# Altium schematic symbol library Schlib2.SchLib: 15 symbols
Pins are listed as number, name and electrical type; pins without a type are passive.

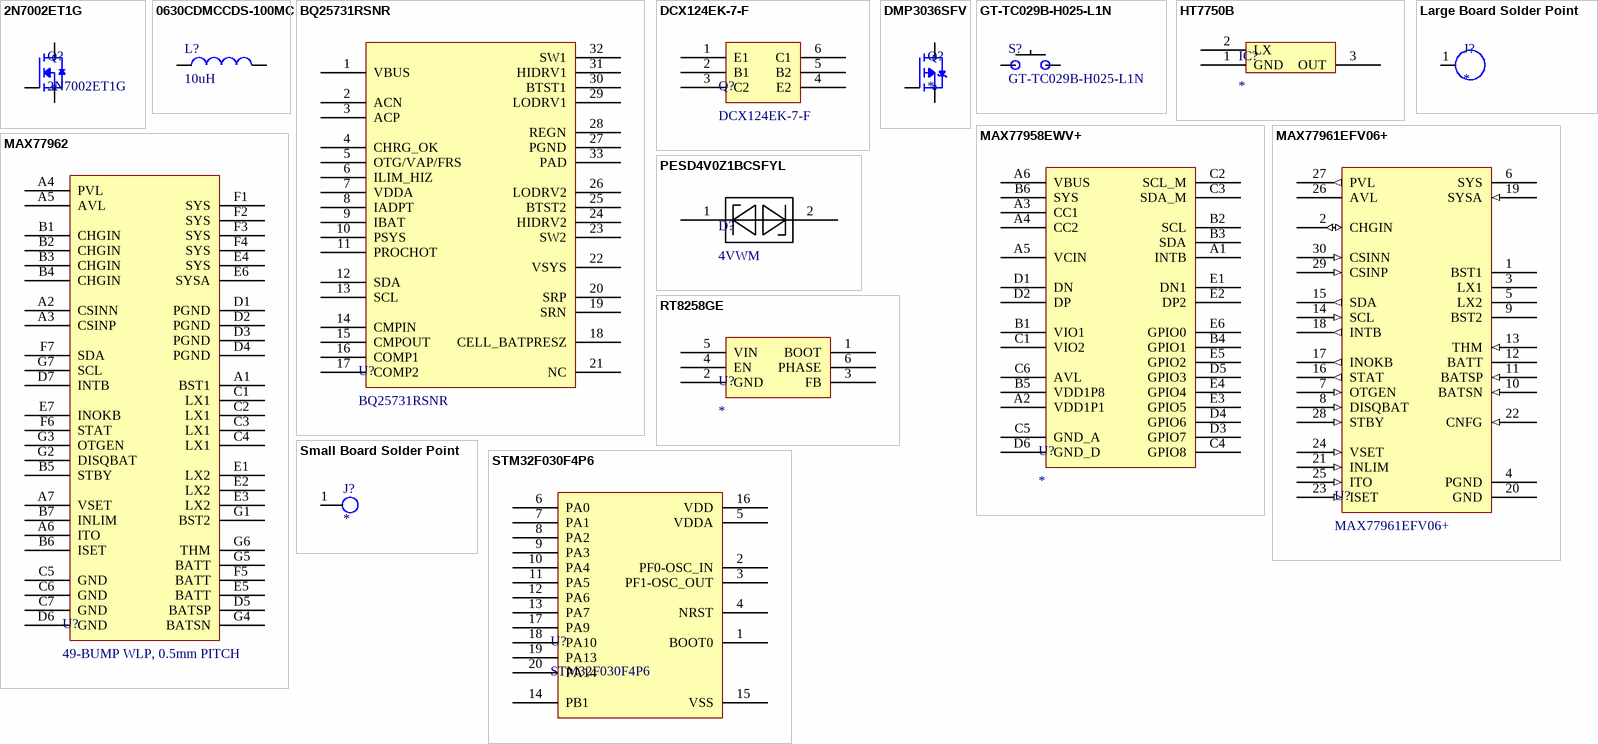
[diagram p0: symbols 2N7002ET1G to STM32F030F4P6]

## 2N7002ET1G
designator Q?
N-Channel 60 V 260mA (Ta) 300mW (Tj) Surface Mount SOT-23-3 (TO-236)
pins: 1 G, 1 S, 2 S, 2 S, 3 D

## 0630CDMCCDS-100MC
designator L?, comment 10uH
4A 10uH ±20% 67mΩ SMD,7x6.6x2.8mm Power Inductors ROHS
footprint 0630CDMCCDS-100MC (SMD,7x6.6x2.8mm)
pins: 1, 2

## BQ25731RSNR
designator U?
I2C 1- to 5-Cell Buck-Boost Battery Charge Controller with USB-C PD 3.0 OTG Output
footprint QFN40P400X400X80_HS-33N (QFN, 32-Leads, Body 4.00x4.00mm, Pitch 0.40mm, Thermal Pad 3.00x3.00mm, IPC Medium Density)
pins: 1 VBUS, 2 ACN, 3 ACP, 4 CHRG_OK, 5 OTG/VAP/FRS, 6 ILIM_HIZ, 7 VDDA, 8 IADPT, 9 IBAT, 10 PSYS, 11 PROCHOT, 12 SDA, 13 SCL, 14 CMPIN, 15 CMPOUT, 16 COMP1, 17 COMP2, 18 CELL_BATPRESZ, 19 SRN, 20 SRP, 21 NC, 22 VSYS, 23 SW2, 24 HIDRV2, 25 BTST2, 26 LODRV2, 27 PGND, 28 REGN, 29 LODRV1, 30 BTST1, 31 HIDRV1, 32 SW1, 33 PAD

## DCX124EK-7-F
designator Q?
Pre-Biased Bipolar Transistor (BJT) 1 NPN, 1 PNP - Pre-Biased (Dual) 50V 100mA 250MHz 300mW Surface Mount SC-74R
footprint SOT95P285X130-6N (SOT23, 6-Leads, Body 3.00x2.85mm, Pitch 0.95mm, IPC Medium Density)
pins: 1 E1, 2 B1, 3 C2, 4 E2, 5 B2, 6 C1

## DMP3036SFV
designator Q?
30V P-CHANNEL ENHANCEMENT MODE MOSFET
footprint PowerDI3333-8 (Type UX)
pins: 1 S, 1_3 S, 2 S, 4 G, 5_8 D

## GT-TC029B-H025-L1N
designator S?
No NO SMDSplicing 50mA 3.9mm 100MΩ 100000 12V 250gf@±30gf 2.9mm -30℃~+85℃ 2.5mm Black Round Button Brick nogging SPST SMD Tactile Switches ROHS
footprint GT-TC029B-H025-L1N (C843669 No NO SMDSplicing 50mA 3.9mm 100MO 100000 12V 250gf@±30gf 2.9mm -30?~+85? 2.5mm Black Round Button Brick nogging SPST SMD Tactile Switches ROHS)
pins: 1, 2

## HT7750B
designator IC?
HT7750B 5V OUT Boost DC/DC Converter 100mA
footprint SOT95P280X145-3N (SOT23, 3-Leads, Body 2.90x2.80mm, Pitch 0.95mm, IPC Medium Density)
pins: 1 GND, 2 LX, 3 OUT

## Large Board Solder Point
designator J?  (no BOM)
Large Board Solder Point
footprint Large Solder Point
pins: 1

## MAX77958EWV+
designator U?
Standalone USB Type-C and USB Power Delivery Controller
footprint BGA30C50P6X5_307X262X64 (BGA, 30-Leads, Body 3.07x2.62mmx0.64mm, Pitch 0.50mm)
pins: A1 INTB, A2 VDD1P1, A3 CC1, A4 CC2, A5 VCIN, A6 VBUS, B1 VIO1, B2 SCL, B3 SDA, B4 GPIO1, B5 VDD1P8, B6 SYS, C1 VIO2, C2 SCL_M, C3 SDA_M, C4 GPIO8, C5 GND_A, C6 AVL, D1 DN, D2 DP, D3 GPIO7, D4 GPIO6, D5 GPIO3, D6 GND_D, E1 DN1, E2 DP2, E3 GPIO5, E4 GPIO4, E5 GPIO2, E6 GPIO0

## MAX77961EFV06+
designator U?
25VIN 3A/6AOUT USB-C Buck-Boost Charger with Integrated FETs for 2S/3S Li-Ion Batteries - 4mm x 4mm, 30-Lead FC2QFN
footprint FC2QFN 30L
pins: 1 BST1, 2 CHGIN (io), 3 LX1, 4 PGND, 5 LX2, 6 SYS, 7 OTGEN (in), 8 DISQBAT (in), 9 BST2, 10 BATSN (in), 11 BATSP (in), 12 BATT, 13 THM (in), 14 SCL (in), 15 SDA (out), 16 STAT (out), 17 INOKB (out), 18 INTB (out), 19 SYSA (in), 20 GND, 21 INLIM (in), 22 CNFG (in), 23 ISET (in), 24 VSET (in), 25 ITO (in), 26 AVL, 27 PVL (out), 28 STBY (in), 29 CSINP (in), 30 CSINN (in)

## MAX77962
designator U?, comment 49-BUMP WLP, 0.5mm PITCH
23VIN 3.2AOUT USB-C Buck-Boost Charger with Integrated FETs for 2S Li-Ion Batteries
footprint BGA49C50P7X7_346X346X64 (BGA, 49-Leads, Body 3.46x3.46mmx0.64mm, Pitch 0.50mm)
pins: A1 BST1, A2 CSINN, A3 CSINP, A4 PVL, A5 AVL, A6 ITO, A7 VSET, B1 CHGIN, B2 CHGIN, B3 CHGIN, B4 CHGIN, B5 STBY, B6 ISET, B7 INLIM, C1 LX1, C2 LX1, C3 LX1, C4 LX1, C5 GND, C6 GND, C7 GND, D1 PGND, D2 PGND, D3 PGND, D4 PGND, D5 BATSP, D6 GND, D7 INTB, E1 LX2, E2 LX2, E3 LX2, E4 SYS, E5 BATT, E6 SYSA, E7 INOKB, F1 SYS, F2 SYS, F3 SYS, F4 SYS, F5 BATT, F6 STAT, F7 SDA, G1 BST2, G2 DISQBAT, G3 OTGEN, G4 BATSN, G5 BATT, G6 THM, G7 SCL

## PESD4V0Z1BCSFYL
designator D?, comment 4VWM
TVS DIODE 4VWM 4.8VC DSN0603-2
footprint 0201 (0201 Diode)
pins: 1 K1, 2 K2

## RT8258GE
designator U?
RICHTEK 1.2A, 24V, 700kHz Step-Down Converter SOT23-6
footprint SOT100P279X130-6N (SOT23, 6-Leads, Body 2.90x2.79mm, Pitch 1.00mm, IPC Medium Density)
pins: 1 BOOT, 2 GND, 3 FB, 4 EN, 5 VIN, 6 PHASE

## Small Board Solder Point
designator J?  (no BOM)
Small Board Solder Point
footprint Small Solder POint
pins: 1

## STM32F030F4P6
designator U?
Value-line Arm-based 32-bit MCU with up to 256 KB Flash, timers, ADC, communication interfaces, 2.4-3.6 V operation - TSSOP20 20-pin
footprint TSOP65P640X120-20N (TSOP, 20-Leads, Body 6.50x4.40mm, Pitch 0.65mm, IPC Medium Density)
pins: 1 BOOT0, 2 PF0-OSC_IN, 3 PF1-OSC_OUT, 4 NRST, 5 VDDA, 6 PA0, 7 PA1, 8 PA2, 9 PA3, 10 PA4, 11 PA5, 12 PA6, 13 PA7, 14 PB1, 15 VSS, 16 VDD, 17 PA9, 18 PA10, 19 PA13, 20 PA14